# Altium schematic symbol library Terminal Block 10.SchLib: 1 symbol
Pins are listed as number, name and electrical type; pins without a type are passive.

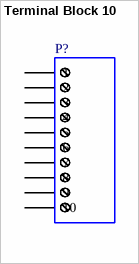
[diagram p0: symbol Terminal Block 10]

## Terminal Block 10
designator P?
Screw terminal block, 10-Way
pins: 1, 2, 3, 4, 5, 6, 7, 8, 9, 10